# EAGLE library part LTM4622 (library LT)
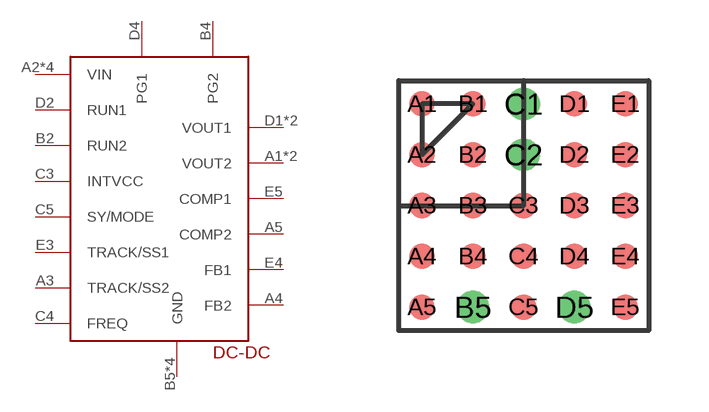
[diagram p1: symbol with the pads of LGA_25; footprint LGA_25]

Designator prefix DC-DC

## LTM4622  [LGA_25]
A1  VOUT2
A2  VIN
A3  TRACK/SS2
A4  FB2
A5  COMP2
B1  VOUT2
B2  RUN2
B3  VIN
B4  PG2
B5  GND
C1  GND
C2  GND
C3  INTVCC
C4  FREQ
C5  SY/MODE
D1  VOUT1
D2  RUN1
D3  VIN
D4  PG1
D5  GND
E1  VOUT1
E2  VIN
E3  TRACK/SS1
E4  FB1
E5  COMP1

## Footprint LGA_25 (pad centres in mm)
smd 0.635 x 0.635: A1 -2.54,2.54; A2 -2.54,1.27; A3 -2.54,0; A4 -2.54,-1.27; A5 -2.54,-2.54; B1 -1.27,2.54; B2 -1.27,1.27; B3 -1.27,0; B4 -1.27,-1.27; C3 0,0; C4 0,-1.27; C5 0,-2.54; D1 1.27,2.54; D2 1.27,1.27; D3 1.27,0; D4 1.27,-1.27; E1 2.54,2.54; E2 2.54,1.27; E3 2.54,0; E4 2.54,-1.27; E5 2.54,-2.54
drill 0.3 pad 0.61: B5 -1.27,-2.54; C1 0,2.54; C2 0,1.27; D5 1.27,-2.54